# EAGLE library part 2700G_7 (library m-pad-2.1)
Intel® 2700G7 Multimedia Graphic Accelerator with 16MB SDRAM 14 mm x 14 mm, 0.65 mm ball pitch 364 ball BGA package optimized for space constrained handheld devices Features: Advanced Packages -14 mm x 14 mm, 0.65 mm ball pitch, 364 ball BGA package optimized for space constrained handheld devices Low Power - Up to VGA (640x480x16 bpp) refresh from integrated frame buffer (2700G5 Multimedia Accelerator only) - Extensive clock gating of both registers and modules - Low voltage core (1.2 V) - Low voltage I/O (1.8 V) - 0.13 micron process technology - Partial and one-shot display refresh support Low Power, High Performance Video Acceleration - Accelerated MPEG 2 video decode, 720 x 480 resolution, 30+ fps - Accelerated MPEG 4 video decode, 640 x 480, 30+ fps - Accelerated WMV* video decode, 640 x 480, 30+ fps - Hardware accelerated Inverse Discrete Cosine Transforms (IDCT) - Hardware accelerated motion compensation - Hardware accelerated color space conversion - Hardware accelerated scaling Low Power, High Performance Graphics Acceleration - 2D and 3D acceleration - Up to 75 MHz, 32-bit graphics engine - 150M pixels per second (pps) fill rate for 2D - 831K triangles per second (tps) processing capability for 3D Packaged Memory Solutions - Integrated 704 KB on die memory - Stacked high-speed SDRAM for local memory - High-speed SDRAM local memory interface -- 16 MB SDRAM at 100 MHz -- 1.8 V SDRAM support -- Low-power SDRAM support Accelerated Dual Display - Simultaneous displays with independent images and independent resolutions - Integrated LCD switch provides highest quality dual display -- Intel® 2700G7 Multimedia Accelerator can drive either display up to 1024 x 768 -- Intel® PXA27x Processor graphics engine can drive either display up to 800 x 600 -- Dynamic, programmable assignment of graphics engine to each display Flexible Architecture - Easy design transition to the 2700G7 Multimedia Accelerator from 2700G3/2700G5 Multimedia Accelerator Intel® PXA27x Processor Optimized - Complementary feature set - Wireless MMX* optimized drivers - PXA27x Processor IPPs and GPPs - Uses both Variable Latency I/O (VLIO) and SRAM protocols Broad Display Support - TFT LCDs up to 1024x768x24bpp - Accelerated dual display - Low power display refresh using on-die memory - Advanced LCD Support - Supports external displays such as analog CRTs and projectors, TVs or digital flat panels when paired with an encoder chip Please send any comments to: messi@users.sourceforge.net
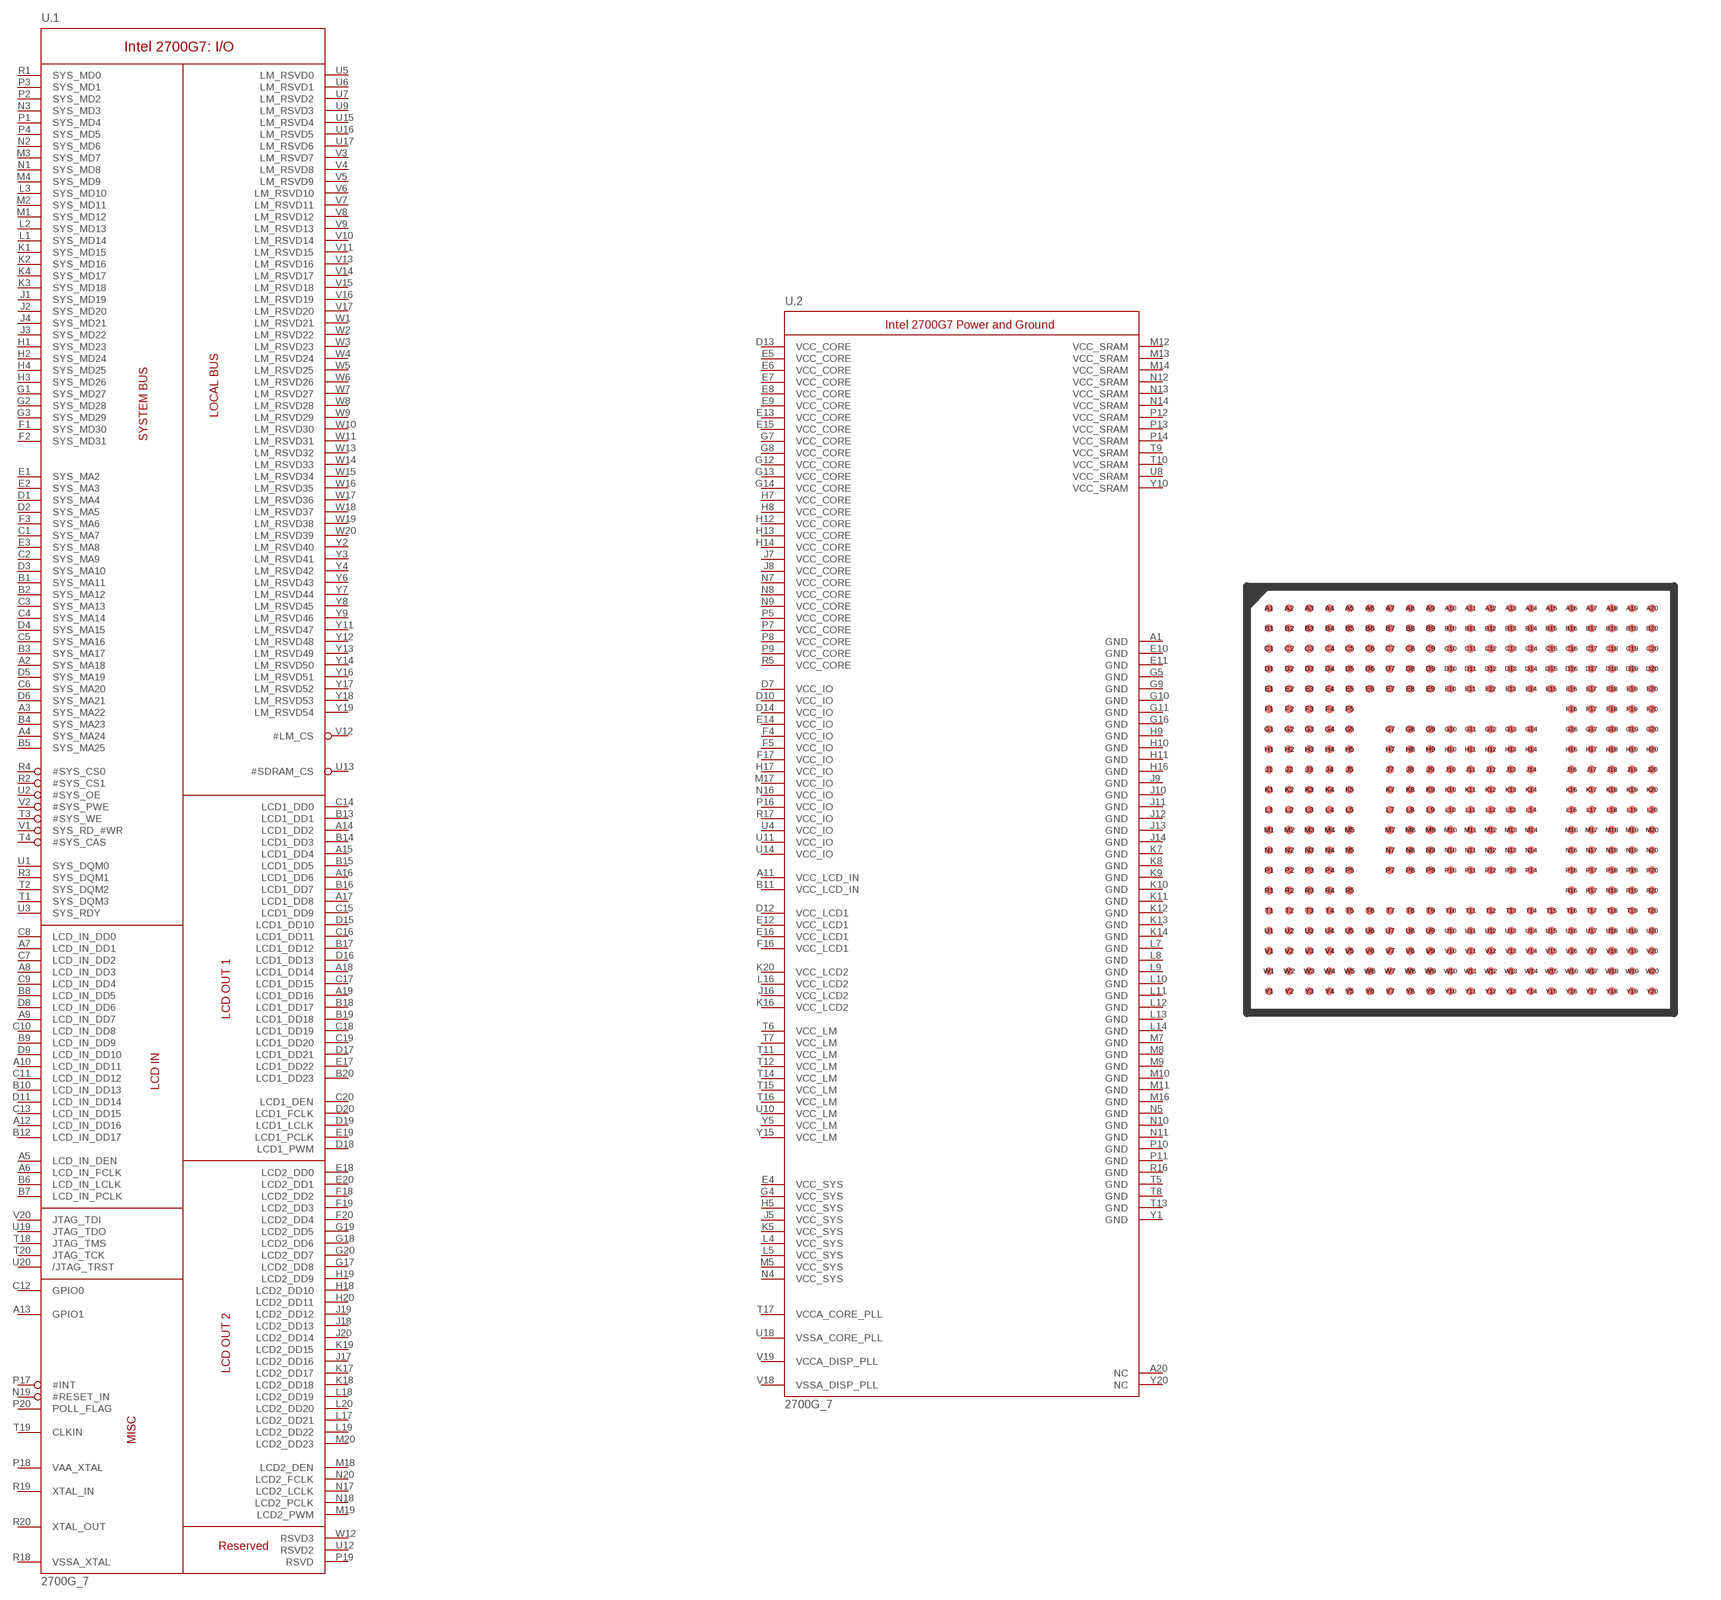
[diagram p98: symbol with the pads of 364-VF-BGA; footprint 364-VF-BGA]

Designator prefix U; gates .1=2700G7_PERIPHERALS .2=2700G7_POWER

## 2700G_7  [364-VF-BGA]
A1  .2:GND  pwr
A2  .1:SYS_MA18  in
A3  .1:SYS_MA22  in
A4  .1:SYS_MA24  in
A5  .1:LCD_IN_DEN  in
A6  .1:LCD_IN_FCLK  in
A7  .1:LCD_IN_DD1  in
A8  .1:LCD_IN_DD3  in
A9  .1:LCD_IN_DD7  in
A10  .1:LCD_IN_DD11  in
A11  .2:VCC_LCD_IN  pwr
A12  .1:LCD_IN_DD16  in
A13  .1:GPIO1
A14  .1:LCD1_DD2  out
A15  .1:LCD1_DD4  out
A16  .1:LCD1_DD6  out
A17  .1:LCD1_DD8  out
A18  .1:LCD1_DD14  out
A19  .1:LCD1_DD16  out
A20  .2:NC  nc
B1  .1:SYS_MA11  in
B2  .1:SYS_MA12  in
B3  .1:SYS_MA17  in
B4  .1:SYS_MA23  in
B5  .1:SYS_MA25  in
B6  .1:LCD_IN_LCLK  in
B7  .1:LCD_IN_PCLK  in
B8  .1:LCD_IN_DD5  in
B9  .1:LCD_IN_DD9  in
B10  .1:LCD_IN_DD13  in
B11  .2:VCC_LCD_IN  pwr
B12  .1:LCD_IN_DD17  in
B13  .1:LCD1_DD1  out
B14  .1:LCD1_DD3  out
B15  .1:LCD1_DD5  out
B16  .1:LCD1_DD7  out
B17  .1:LCD1_DD12  out
B18  .1:LCD1_DD17  out
B19  .1:LCD1_DD18  out
B20  .1:LCD1_DD23  out
C1  .1:SYS_MA7  in
C2  .1:SYS_MA9  in
C3  .1:SYS_MA13  in
C4  .1:SYS_MA14  in
C5  .1:SYS_MA16  in
C6  .1:SYS_MA20  in
C7  .1:LCD_IN_DD2  in
C8  .1:LCD_IN_DD0  in
C9  .1:LCD_IN_DD4  in
C10  .1:LCD_IN_DD8  in
C11  .1:LCD_IN_DD12  in
C12  .1:GPIO0
C13  .1:LCD_IN_DD15  in
C14  .1:LCD1_DD0  out
C15  .1:LCD1_DD9  out
C16  .1:LCD1_DD11  out
C17  .1:LCD1_DD15  out
C18  .1:LCD1_DD19  out
C19  .1:LCD1_DD20  out
C20  .1:LCD1_DEN  out
D1  .1:SYS_MA4  in
D2  .1:SYS_MA5  in
D3  .1:SYS_MA10  in
D4  .1:SYS_MA15  in
D5  .1:SYS_MA19  in
D6  .1:SYS_MA21  in
D7  .2:VCC_IO  pwr
D8  .1:LCD_IN_DD6  in
D9  .1:LCD_IN_DD10  in
D10  .2:VCC_IO  pwr
D11  .1:LCD_IN_DD14  in
D12  .2:VCC_LCD1  pwr
D13  .2:VCC_CORE  pwr
D14  .2:VCC_IO  pwr
D15  .1:LCD1_DD10  out
D16  .1:LCD1_DD13  out
D17  .1:LCD1_DD21  out
D18  .1:LCD1_PWM  out
D19  .1:LCD1_LCLK  out
D20  .1:LCD1_FCLK  out
E1  .1:SYS_MA2  in
E2  .1:SYS_MA3  in
E3  .1:SYS_MA8  in
E4  .2:VCC_SYS  pwr
E5  .2:VCC_CORE  pwr
E6  .2:VCC_CORE  pwr
E7  .2:VCC_CORE  pwr
E8  .2:VCC_CORE  pwr
E9  .2:VCC_CORE  pwr
E10  .2:GND  pwr
E11  .2:GND  pwr
E12  .2:VCC_LCD1  pwr
E13  .2:VCC_CORE  pwr
E14  .2:VCC_IO  pwr
E15  .2:VCC_CORE  pwr
E16  .2:VCC_LCD1  pwr
E17  .1:LCD1_DD22  out
E18  .1:LCD2_DD0  out
E19  .1:LCD1_PCLK  out
E20  .1:LCD2_DD1  out
F1  .1:SYS_MD30
F2  .1:SYS_MD31
F3  .1:SYS_MA6  in
F4  .2:VCC_IO  pwr
F5  .2:VCC_IO  pwr
F16  .2:VCC_LCD1  pwr
F17  .2:VCC_IO  pwr
F18  .1:LCD2_DD2  out
F19  .1:LCD2_DD3  out
F20  .1:LCD2_DD4  out
G1  .1:SYS_MD27
G2  .1:SYS_MD28
G3  .1:SYS_MD29
G4  .2:VCC_SYS  pwr
G5  .2:GND  pwr
G7  .2:VCC_CORE  pwr
G8  .2:VCC_CORE  pwr
G9  .2:GND  pwr
G10  .2:GND  pwr
G11  .2:GND  pwr
G12  .2:VCC_CORE  pwr
G13  .2:VCC_CORE  pwr
G14  .2:VCC_CORE  pwr
G16  .2:GND  pwr
G17  .1:LCD2_DD8  out
G18  .1:LCD2_DD6  out
G19  .1:LCD2_DD5  out
G20  .1:LCD2_DD7  out
H1  .1:SYS_MD23
H2  .1:SYS_MD24
H3  .1:SYS_MD26
H4  .1:SYS_MD25
H5  .2:VCC_SYS  pwr
H7  .2:VCC_CORE  pwr
H8  .2:VCC_CORE  pwr
H9  .2:GND  pwr
H10  .2:GND  pwr
H11  .2:GND  pwr
H12  .2:VCC_CORE  pwr
H13  .2:VCC_CORE  pwr
H14  .2:VCC_CORE  pwr
H16  .2:GND  pwr
H17  .2:VCC_IO  pwr
H18  .1:LCD2_DD10  out
H19  .1:LCD2_DD9  out
H20  .1:LCD2_DD11  out
J1  .1:SYS_MD19
J2  .1:SYS_MD20
J3  .1:SYS_MD22
J4  .1:SYS_MD21
J5  .2:VCC_SYS  pwr
J7  .2:VCC_CORE  pwr
J8  .2:VCC_CORE  pwr
J9  .2:GND  pwr
J10  .2:GND  pwr
J11  .2:GND  pwr
J12  .2:GND  pwr
J13  .2:GND  pwr
J14  .2:GND  pwr
J16  .2:VCC_LCD2  pwr
J17  .1:LCD2_DD16  out
J18  .1:LCD2_DD13  out
J19  .1:LCD2_DD12  out
J20  .1:LCD2_DD14  out
K1  .1:SYS_MD15
K2  .1:SYS_MD16
K3  .1:SYS_MD18
K4  .1:SYS_MD17
K5  .2:VCC_SYS  pwr
K7  .2:GND  pwr
K8  .2:GND  pwr
K9  .2:GND  pwr
K10  .2:GND  pwr
K11  .2:GND  pwr
K12  .2:GND  pwr
K13  .2:GND  pwr
K14  .2:GND  pwr
K16  .2:VCC_LCD2  pwr
K17  .1:LCD2_DD17  out
K18  .1:LCD2_DD18  out
K19  .1:LCD2_DD15  out
K20  .2:VCC_LCD2  pwr
L1  .1:SYS_MD14
L2  .1:SYS_MD13
L3  .1:SYS_MD10
L4  .2:VCC_SYS  pwr
L5  .2:VCC_SYS  pwr
L7  .2:GND  pwr
L8  .2:GND  pwr
L9  .2:GND  pwr
L10  .2:GND  pwr
L11  .2:GND  pwr
L12  .2:GND  pwr
L13  .2:GND  pwr
L14  .2:GND  pwr
L16  .2:VCC_LCD2  pwr
L17  .1:LCD2_DD21  out
L18  .1:LCD2_DD19  out
L19  .1:LCD2_DD22  out
L20  .1:LCD2_DD20  out
M1  .1:SYS_MD12
M2  .1:SYS_MD11
M3  .1:SYS_MD7
M4  .1:SYS_MD9
M5  .2:VCC_SYS  pwr
M7  .2:GND  pwr
M8  .2:GND  pwr
M9  .2:GND  pwr
M10  .2:GND  pwr
M11  .2:GND  pwr
M12  .2:VCC_SRAM  pwr
M13  .2:VCC_SRAM  pwr
M14  .2:VCC_SRAM  pwr
M16  .2:GND  pwr
M17  .2:VCC_IO  pwr
M18  .1:LCD2_DEN  out
M19  .1:LCD2_PWM  out
M20  .1:LCD2_DD23  out
N1  .1:SYS_MD8
N2  .1:SYS_MD6
N3  .1:SYS_MD3
N4  .2:VCC_SYS  pwr
N5  .2:GND  pwr
N7  .2:VCC_CORE  pwr
N8  .2:VCC_CORE  pwr
N9  .2:VCC_CORE  pwr
N10  .2:GND  pwr
N11  .2:GND  pwr
N12  .2:VCC_SRAM  pwr
N13  .2:VCC_SRAM  pwr
N14  .2:VCC_SRAM  pwr
N16  .2:VCC_IO  pwr
N17  .1:LCD2_LCLK  out
N18  .1:LCD2_PCLK  out
N19  .1:#RESET_IN  in
N20  .1:LCD2_FCLK  out
P1  .1:SYS_MD4
P2  .1:SYS_MD2
P3  .1:SYS_MD1
P4  .1:SYS_MD5
P5  .2:VCC_CORE  pwr
P7  .2:VCC_CORE  pwr
P8  .2:VCC_CORE  pwr
P9  .2:VCC_CORE  pwr
P10  .2:GND  pwr
P11  .2:GND  pwr
P12  .2:VCC_SRAM  pwr
P13  .2:VCC_SRAM  pwr
P14  .2:VCC_SRAM  pwr
P16  .2:VCC_IO  pwr
P17  .1:#INT  out
P18  .1:VAA_XTAL  pwr
P19  .1:RSVD  in
P20  .1:POLL_FLAG  out
R1  .1:SYS_MD0
R2  .1:#SYS_CS1  in
R3  .1:SYS_DQM1  in
R4  .1:#SYS_CS0  in
R5  .2:VCC_CORE  pwr
R16  .2:GND  pwr
R17  .2:VCC_IO  pwr
R18  .1:VSSA_XTAL  pwr
R19  .1:XTAL_IN  in
R20  .1:XTAL_OUT  out
T1  .1:SYS_DQM3  in
T2  .1:SYS_DQM2  in
T3  .1:#SYS_WE  in
T4  .1:#SYS_CAS  in
T5  .2:GND  pwr
T6  .2:VCC_LM  pwr
T7  .2:VCC_LM  pwr
T8  .2:GND  pwr
T9  .2:VCC_SRAM  pwr
T10  .2:VCC_SRAM  pwr
T11  .2:VCC_LM  pwr
T12  .2:VCC_LM  pwr
T13  .2:GND  pwr
T14  .2:VCC_LM  pwr
T15  .2:VCC_LM  pwr
T16  .2:VCC_LM  pwr
T17  .2:VCCA_CORE_PLL  pwr
T18  .1:JTAG_TMS  in
T19  .1:CLKIN  in
T20  .1:JTAG_TCK  in
U1  .1:SYS_DQM0  in
U2  .1:#SYS_OE  in
U3  .1:SYS_RDY  out
U4  .2:VCC_IO  pwr
U5  .1:LM_RSVD0
U6  .1:LM_RSVD1
U7  .1:LM_RSVD2
U8  .2:VCC_SRAM  pwr
U9  .1:LM_RSVD3
U10  .2:VCC_LM  pwr
U11  .2:VCC_IO  pwr
U12  .1:RSVD2  in
U13  .1:#SDRAM_CS  out
U14  .2:VCC_IO  pwr
U15  .1:LM_RSVD4
U16  .1:LM_RSVD5
U17  .1:LM_RSVD6
U18  .2:VSSA_CORE_PLL  pwr
U19  .1:JTAG_TDO  out
U20  .1:/JTAG_TRST  in
V1  .1:SYS_RD_#WR  in
V2  .1:#SYS_PWE  in
V3  .1:LM_RSVD7
V4  .1:LM_RSVD8
V5  .1:LM_RSVD9
V6  .1:LM_RSVD10
V7  .1:LM_RSVD11
V8  .1:LM_RSVD12
V9  .1:LM_RSVD13
V10  .1:LM_RSVD14
V11  .1:LM_RSVD15
V12  .1:#LM_CS  out
V13  .1:LM_RSVD16
V14  .1:LM_RSVD17
V15  .1:LM_RSVD18
V16  .1:LM_RSVD19
V17  .1:LM_RSVD20
V18  .2:VSSA_DISP_PLL  pwr
V19  .2:VCCA_DISP_PLL  pwr
V20  .1:JTAG_TDI  in
W1  .1:LM_RSVD21
W2  .1:LM_RSVD22
W3  .1:LM_RSVD23
W4  .1:LM_RSVD24
W5  .1:LM_RSVD25
W6  .1:LM_RSVD26
W7  .1:LM_RSVD27
W8  .1:LM_RSVD28
W9  .1:LM_RSVD29
W10  .1:LM_RSVD30
W11  .1:LM_RSVD31
W12  .1:RSVD3  in
W13  .1:LM_RSVD32  out
W14  .1:LM_RSVD33  out
W15  .1:LM_RSVD34  out
W16  .1:LM_RSVD35  out
W17  .1:LM_RSVD36  out
W18  .1:LM_RSVD37  out
W19  .1:LM_RSVD38  out
W20  .1:LM_RSVD39  out
Y1  .2:GND  pwr
Y2  .1:LM_RSVD40  out
Y3  .1:LM_RSVD41  out
Y4  .1:LM_RSVD42  out
Y5  .2:VCC_LM  pwr
Y6  .1:LM_RSVD43  out
Y7  .1:LM_RSVD44  out
Y8  .1:LM_RSVD45  out
Y9  .1:LM_RSVD46  out
Y10  .2:VCC_SRAM  pwr
Y11  .1:LM_RSVD47  out
Y12  .1:LM_RSVD48  out
Y13  .1:LM_RSVD49  out
Y14  .1:LM_RSVD50  out
Y15  .2:VCC_LM  pwr
Y16  .1:LM_RSVD51  out
Y17  .1:LM_RSVD52  out
Y18  .1:LM_RSVD53  out
Y19  .1:LM_RSVD54  out
Y20  .2:NC  nc

## Footprint 364-VF-BGA (pad centres in mm)
VF-BGA. Package 14 mm x 14 mm BGA. 364 balls spaced on a 0.65 mm ball grid (pitch) The ball diameter is 0.254 mm. (Design Guide of Intels 2700G3/5/7) Please send any comments to: messi@users.sourceforge.net
smd 0.254 x 0.254: A1 -6.175,6.175; A2 -5.525,6.175; A3 -4.875,6.175; A4 -4.225,6.175; A5 -3.575,6.175; A6 -2.925,6.175; A7 -2.275,6.175; A8 -1.625,6.175; A9 -0.975,6.175; A10 -0.325,6.175; A11 0.325,6.175; A12 0.975,6.175; A13 1.625,6.175; A14 2.275,6.175; A15 2.925,6.175; A16 3.575,6.175; A17 4.225,6.175; A18 4.875,6.175; A19 5.525,6.175; A20 6.175,6.175; B1 -6.175,5.525; B2 -5.525,5.525; B3 -4.875,5.525; B4 -4.225,5.525; B5 -3.575,5.525; B6 -2.925,5.525; B7 -2.275,5.525; B8 -1.625,5.525; B9 -0.975,5.525; B10 -0.325,5.525; B11 0.325,5.525; B12 0.975,5.525; B13 1.625,5.525; B14 2.275,5.525; B15 2.925,5.525; B16 3.575,5.525; B17 4.225,5.525; B18 4.875,5.525; B19 5.525,5.525; B20 6.175,5.525; C1 -6.175,4.875; C2 -5.525,4.875; C3 -4.875,4.875; C4 -4.225,4.875; C5 -3.575,4.875; C6 -2.925,4.875; C7 -2.275,4.875; C8 -1.625,4.875; C9 -0.975,4.875; C10 -0.325,4.875; C11 0.325,4.875; C12 0.975,4.875; C13 1.625,4.875; C14 2.275,4.875; C15 2.925,4.875; C16 3.575,4.875; C17 4.225,4.875; C18 4.875,4.875; C19 5.525,4.875; C20 6.175,4.875; D1 -6.175,4.225; D2 -5.525,4.225; D3 -4.875,4.225; D4 -4.225,4.225; D5 -3.575,4.225; D6 -2.925,4.225; D7 -2.275,4.225; D8 -1.625,4.225; D9 -0.975,4.225; D10 -0.325,4.225; D11 0.325,4.225; D12 0.975,4.225; D13 1.625,4.225; D14 2.275,4.225; D15 2.925,4.225; D16 3.575,4.225; D17 4.225,4.225; D18 4.875,4.225; D19 5.525,4.225; D20 6.175,4.225; E1 -6.175,3.575; E2 -5.525,3.575; E3 -4.875,3.575; E4 -4.225,3.575; E5 -3.575,3.575; E6 -2.925,3.575; E7 -2.275,3.575; E8 -1.625,3.575; E9 -0.975,3.575; E10 -0.325,3.575; E11 0.325,3.575; E12 0.975,3.575; E13 1.625,3.575; E14 2.275,3.575; E15 2.925,3.575; E16 3.575,3.575; E17 4.225,3.575; E18 4.875,3.575; E19 5.525,3.575; E20 6.175,3.575; F1 -6.175,2.925; F2 -5.525,2.925; F3 -4.875,2.925; F4 -4.225,2.925; F5 -3.575,2.925; F16 3.575,2.925; F17 4.225,2.925; F18 4.875,2.925; F19 5.525,2.925; F20 6.175,2.925; G1 -6.175,2.275; G2 -5.525,2.275; G3 -4.875,2.275; G4 -4.225,2.275; G5 -3.575,2.275; G7 -2.275,2.275; G8 -1.625,2.275; G9 -0.975,2.275; G10 -0.325,2.275; G11 0.325,2.275; G12 0.975,2.275; G13 1.625,2.275; G14 2.275,2.275; G16 3.575,2.275; G17 4.225,2.275; G18 4.875,2.275; G19 5.525,2.275; G20 6.175,2.275; H1 -6.175,1.625; H2 -5.525,1.625; H3 -4.875,1.625; H4 -4.225,1.625; H5 -3.575,1.625; H7 -2.275,1.625; H8 -1.625,1.625; H9 -0.975,1.625; H10 -0.325,1.625; H11 0.325,1.625; H12 0.975,1.625; H13 1.625,1.625; H14 2.275,1.625; H16 3.575,1.625; H17 4.225,1.625; H18 4.875,1.625; H19 5.525,1.625; H20 6.175,1.625; J1 -6.175,0.975; J2 -5.525,0.975; J3 -4.875,0.975; J4 -4.225,0.975; J5 -3.575,0.975; J7 -2.275,0.975; J8 -1.625,0.975; J9 -0.975,0.975; J10 -0.325,0.975; J11 0.325,0.975; J12 0.975,0.975; J13 1.625,0.975; J14 2.275,0.975; J16 3.575,0.975; J17 4.225,0.975; J18 4.875,0.975; J19 5.525,0.975; J20 6.175,0.975; K1 -6.175,0.325; K2 -5.525,0.325; K3 -4.875,0.325; K4 -4.225,0.325; K5 -3.575,0.325; K7 -2.275,0.325; K8 -1.625,0.325; K9 -0.975,0.325; K10 -0.325,0.325; K11 0.325,0.325; K12 0.975,0.325; K13 1.625,0.325; K14 2.275,0.325; K16 3.575,0.325; K17 4.225,0.325; K18 4.875,0.325; K19 5.525,0.325; K20 6.175,0.325; L1 -6.175,-0.325; L2 -5.525,-0.325; L3 -4.875,-0.325; L4 -4.225,-0.325; L5 -3.575,-0.325; L7 -2.275,-0.325; L8 -1.625,-0.325; L9 -0.975,-0.325; L10 -0.325,-0.325; L11 0.325,-0.325; L12 0.975,-0.325; L13 1.625,-0.325; L14 2.275,-0.325; L16 3.575,-0.325; L17 4.225,-0.325; L18 4.875,-0.325; L19 5.525,-0.325; L20 6.175,-0.325; M1 -6.175,-0.975; M2 -5.525,-0.975; M3 -4.875,-0.975; M4 -4.225,-0.975; M5 -3.575,-0.975; M7 -2.275,-0.975; M8 -1.625,-0.975; M9 -0.975,-0.975; M10 -0.325,-0.975; M11 0.325,-0.975; M12 0.975,-0.975; M13 1.625,-0.975; M14 2.275,-0.975; M16 3.575,-0.975; M17 4.225,-0.975; M18 4.875,-0.975; M19 5.525,-0.975; M20 6.175,-0.975; N1 -6.175,-1.625; N2 -5.525,-1.625; N3 -4.875,-1.625; N4 -4.225,-1.625; N5 -3.575,-1.625; N7 -2.275,-1.625; N8 -1.625,-1.625; N9 -0.975,-1.625; N10 -0.325,-1.625; N11 0.325,-1.625; N12 0.975,-1.625; N13 1.625,-1.625; N14 2.275,-1.625; N16 3.575,-1.625; N17 4.225,-1.625; N18 4.875,-1.625; N19 5.525,-1.625; N20 6.175,-1.625; P1 -6.175,-2.275; P2 -5.525,-2.275; P3 -4.875,-2.275; P4 -4.225,-2.275; P5 -3.575,-2.275; P7 -2.275,-2.275; P8 -1.625,-2.275; P9 -0.975,-2.275; P10 -0.325,-2.275; P11 0.325,-2.275; P12 0.975,-2.275; P13 1.625,-2.275; P14 2.275,-2.275; P16 3.575,-2.275; P17 4.225,-2.275; P18 4.875,-2.275; P19 5.525,-2.275; P20 6.175,-2.275; R1 -6.175,-2.925; R2 -5.525,-2.925; R3 -4.875,-2.925; R4 -4.225,-2.925; R5 -3.575,-2.925; R16 3.575,-2.925; R17 4.225,-2.925; R18 4.875,-2.925; R19 5.525,-2.925; R20 6.175,-2.925; T1 -6.175,-3.575; T2 -5.525,-3.575; T3 -4.875,-3.575; T4 -4.225,-3.575; T5 -3.575,-3.575; T6 -2.925,-3.575; T7 -2.275,-3.575; T8 -1.625,-3.575; T9 -0.975,-3.575; T10 -0.325,-3.575; T11 0.325,-3.575; T12 0.975,-3.575; T13 1.625,-3.575; T14 2.275,-3.575; T15 2.925,-3.575; T16 3.575,-3.575; T17 4.225,-3.575; T18 4.875,-3.575; T19 5.525,-3.575; T20 6.175,-3.575; U1 -6.175,-4.225; U2 -5.525,-4.225; U3 -4.875,-4.225; U4 -4.225,-4.225; U5 -3.575,-4.225; U6 -2.925,-4.225; U7 -2.275,-4.225; U8 -1.625,-4.225; U9 -0.975,-4.225; U10 -0.325,-4.225; U11 0.325,-4.225; U12 0.975,-4.225; U13 1.625,-4.225; U14 2.275,-4.225; U15 2.925,-4.225; U16 3.575,-4.225; U17 4.225,-4.225; U18 4.875,-4.225; U19 5.525,-4.225; U20 6.175,-4.225; V1 -6.175,-4.875; V2 -5.525,-4.875; V3 -4.875,-4.875; V4 -4.225,-4.875; V5 -3.575,-4.875; V6 -2.925,-4.875; V7 -2.275,-4.875; V8 -1.625,-4.875; V9 -0.975,-4.875; V10 -0.325,-4.875; V11 0.325,-4.875; V12 0.975,-4.875; V13 1.625,-4.875; V14 2.275,-4.875; V15 2.925,-4.875; V16 3.575,-4.875; V17 4.225,-4.875; V18 4.875,-4.875; V19 5.525,-4.875; V20 6.175,-4.875; W1 -6.175,-5.525; W2 -5.525,-5.525; W3 -4.875,-5.525; W4 -4.225,-5.525; W5 -3.575,-5.525; W6 -2.925,-5.525; W7 -2.275,-5.525; W8 -1.625,-5.525; W9 -0.975,-5.525; W10 -0.325,-5.525; W11 0.325,-5.525; W12 0.975,-5.525; W13 1.625,-5.525; W14 2.275,-5.525; W15 2.925,-5.525; W16 3.575,-5.525; W17 4.225,-5.525; W18 4.875,-5.525; W19 5.525,-5.525; W20 6.175,-5.525; Y1 -6.175,-6.175; Y2 -5.525,-6.175; Y3 -4.875,-6.175; Y4 -4.225,-6.175; Y5 -3.575,-6.175; Y6 -2.925,-6.175; Y7 -2.275,-6.175; Y8 -1.625,-6.175; Y9 -0.975,-6.175; Y10 -0.325,-6.175; Y11 0.325,-6.175; Y12 0.975,-6.175; Y13 1.625,-6.175; Y14 2.275,-6.175; Y15 2.925,-6.175; Y16 3.575,-6.175; Y17 4.225,-6.175; Y18 4.875,-6.175; Y19 5.525,-6.175; Y20 6.175,-6.175